# EAGLE library part 637101120108 (library WR-RAST)
WR-RAST Male Header Crimp 5 mm Characteristics Rated Current: 16 A Working Voltage: 380 V Operating temperature: -40 °C up to +120 °C UL approval: E323964 Insulator Flammability Rating: UL94 V-0 Glow-Wire Compliancy Conform to IEC 60335-1 Tested at 750 °C and 850 °C Perform by third party laboratory Suitable for non-attended appliances and many other applications Applications White goods Unattended appliance <https://www.we-online.com/components/media/o871475v209%20Family-Image-WR-Rasts-Male.jpg> Details see: www.we-online.com/en/components/products/WTB_WR-RAST_MALE <www.we-online.com/catalog/WTB_WR-RAST_MALE/?utm_source=eagle_model&utm_medium=description_link&utm_campaign=eisos_eagle> Updated by Ella 2026-05-13 2026 (C) Würth Elektronik
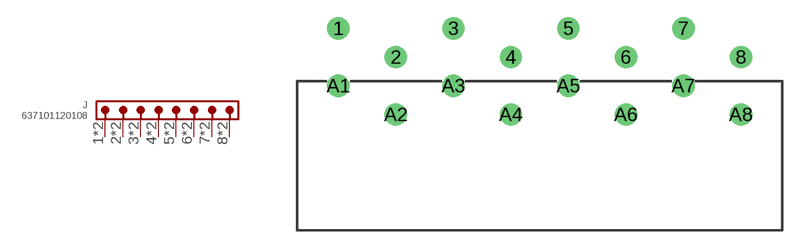
[diagram p7: symbol with the pads of 637101120108; footprint 637101120108]

Designator prefix J

## 637101120108 (CODING: 0A; DATASHEET-URL: https://www.we-online.com/redexpert/spec/637101120108?ae; INSULATOR-MATERIAL: PA66; IR: 16 A; PACKAGING: Tray; PART-NUMBER: 637101120108; PITCH: 5 mm; POLARITY: 8; VALUE: 637101120108)  [637101120108]
1  1  pas
2  2  pas
3  3  pas
4  4  pas
5  5  pas
6  6  pas
7  7  pas
8  8  pas
A1  1  pas
A2  2  pas
A3  3  pas
A4  4  pas
A5  5  pas
A6  6  pas
A7  7  pas
A8  8  pas

## Footprint 637101120108 (pad centres in mm)
WR-RAST 5mm Male Horizontal Header
drill 1.3: 1 -17.5,3.75; 2 -12.5,1.25; 3 -7.5,3.75; 4 -2.5,1.25; 5 2.5,3.75; 6 7.5,1.25; 7 12.5,3.75; 8 17.5,1.25; A1 -17.5,-1.25; A2 -12.5,-3.75; A3 -7.5,-1.25; A4 -2.5,-3.75; A5 2.5,-1.25; A6 7.5,-3.75; A7 12.5,-1.25; A8 17.5,-3.75